# Altium footprint library Capacitor.PcbLib: 107 footprints (part 5 of 7)
Each footprint in its own frame and in the unit in brackets; x right, y up, seen from the top. Pads: shape width x height; smd on the part's side, far side on the other; paste and mask are expansions set on the pad; w line width, h text height; cw(c..) or ccw(c..) is an arc to the next point about the centre after c.
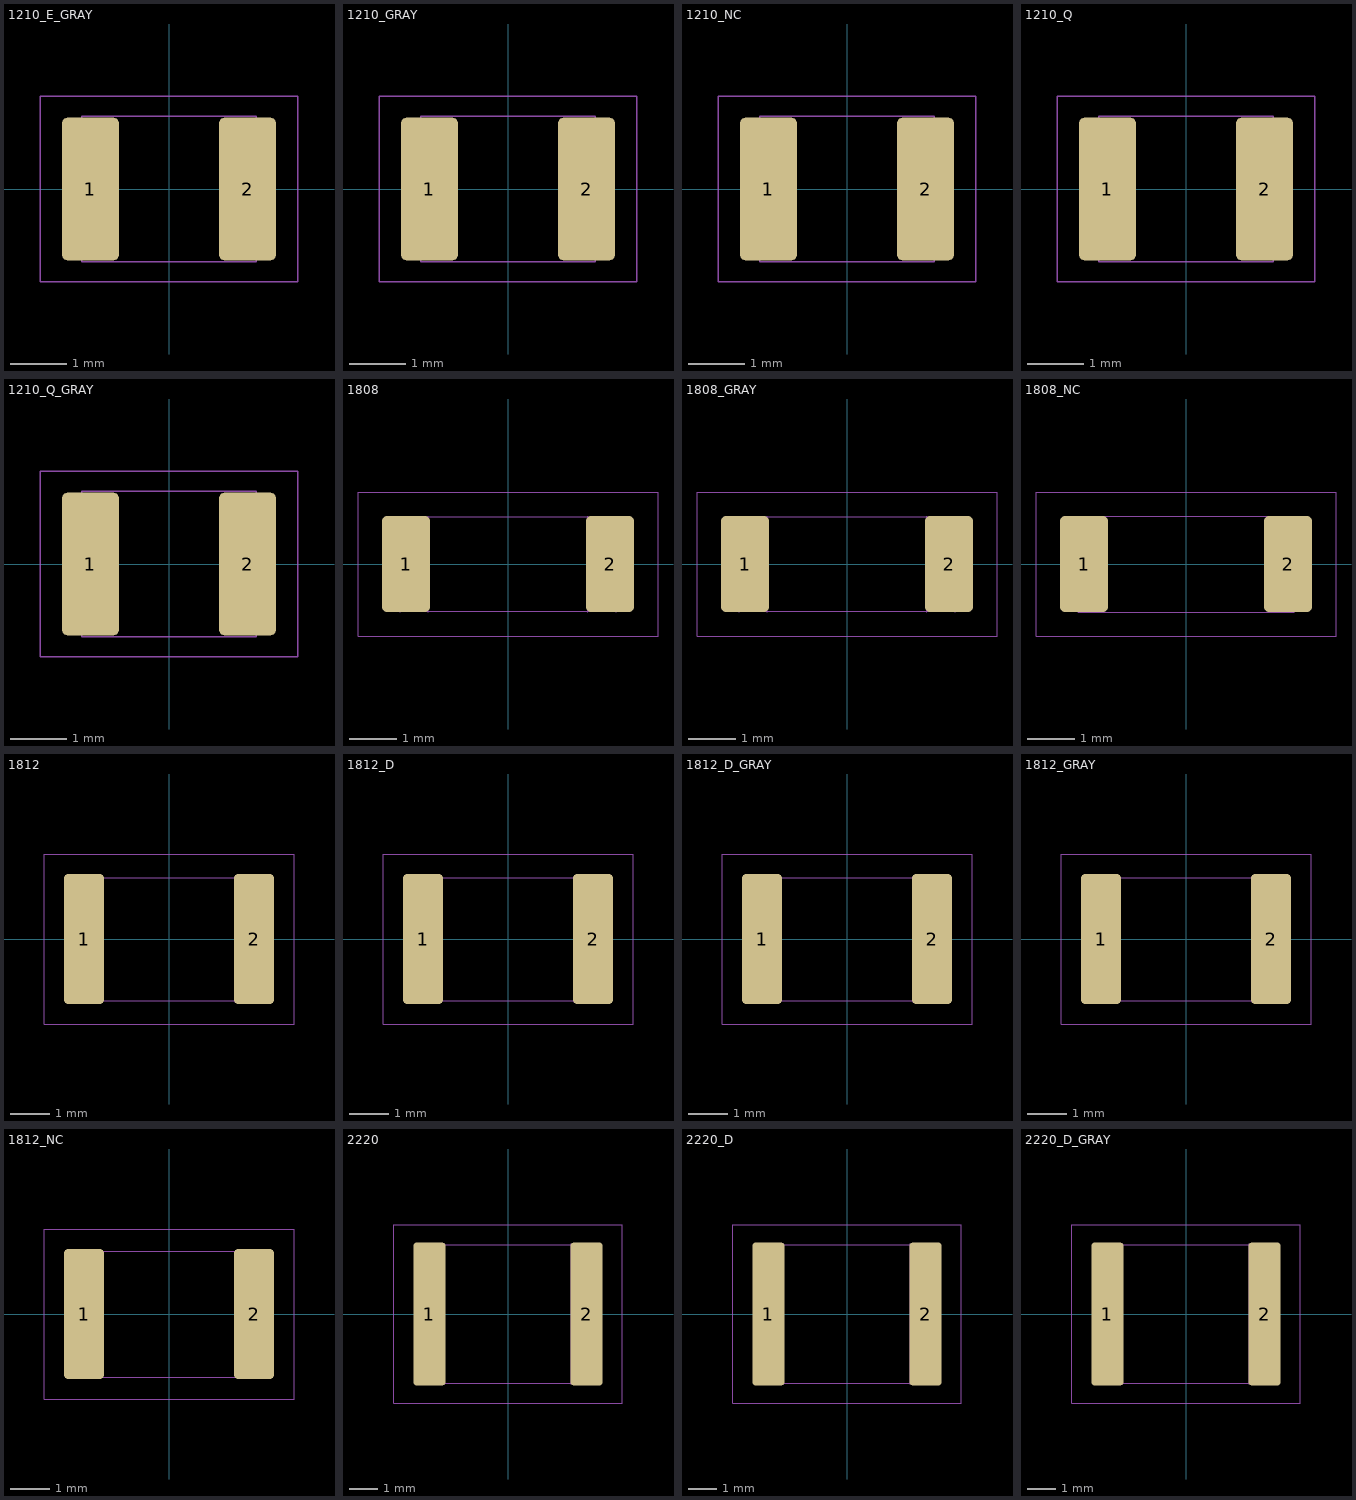
[diagram p4: the footprints below, top view; thin cyan lines are the x and y axes]

## 1210_E_GRAY [mil]
height 98.43
pads (2):
  rrect20% 40x100 smd: 1(-55,0) 2(55,0)
Top Designator:
  text ".Designator" at -127.64,-12.5 h35
Top Courtyard:
  lines w1: -90,-65 -90,65 90,65 90,-65 -90,-65
Top Component Outline:
  lines w1: -61,-51 -61,51 61,51 61,-51 -61,-51
3D body: height 98.43, standoff 0, extent 35,-51 61,51
3D body: height 98, standoff 1, extent -60,-50 60,50
3D body: height 98.43, standoff 0, extent -61,-51 -35,51

## 1210_GRAY [mil]
height 39.37
pads (2):
  rrect20% 40x100 smd: 1(-55,0) 2(55,0)
Top Designator:
  text ".Designator" at -127.64,-12.5 h35
Top Courtyard:
  lines w1: -90,-65 -90,65 90,65 90,-65 -90,-65
Top Component Outline:
  lines w1: -61,-51 -61,51 61,51 61,-51 -61,-51
3D body: height 39.37, standoff 0, extent 35,-51 61,51
3D body: height 38.5, standoff 1, extent -60,-50 60,50
3D body: height 39.37, standoff 0, extent -61,-51 -35,51

## 1210_NC [mil]
height 98.42
pads (2):
  rrect20% 40x100 smd: 1(-55,0) 2(55,0)
Top Designator:
  text ".Designator" at -127.64,-12.5 h35
Top Courtyard:
  lines w1: -90,-65 -90,65 90,65 90,-65 -90,-65
Top Component Outline:
  lines w1: -61,-51 -61,51 61,51 61,-51 -61,-51
3D body: height 1, standoff 0, extent -61,-51 61,51

## 1210_Q [mil]
height 59.06
pads (2):
  rrect20% 40x100 smd: 1(-55,0) 2(55,0)
Top Designator:
  text ".Designator" at -127.64,-12.5 h35
Top Courtyard:
  lines w1: -90,-65 -90,65 90,65 90,-65 -90,-65
Top Component Outline:
  lines w1: -61,-51 -61,51 61,51 61,-51 -61,-51
3D body: height 59.06, standoff 0, extent 35,-51 61,51
3D body: height 58, standoff 1, extent -60,-50 60,50
3D body: height 59.06, standoff 0, extent -61,-51 -35,51

## 1210_Q_GRAY [mil]
height 59.06
pads (2):
  rrect20% 40x100 smd: 1(-55,0) 2(55,0)
Top Designator:
  text ".Designator" at -127.64,-12.5 h35
Top Courtyard:
  lines w1: -90,-65 90,-65 90,65 -90,65 -90,-65
Top Component Outline:
  lines w1: -61,-51 61,-51 61,51 -61,51 -61,-51
3D body: height 59.06, standoff 0, extent -61,-51 -35,51
3D body: height 58, standoff 1, extent -60,-50 60,50
3D body: height 59.06, standoff 0, extent 35,-51 61,51

## 1808 [mil]
height 40
pads (2):
  rrect20% 40x80 smd: 1(-85,0) 2(85,0)
Top Designator:
  text ".Designator" at -127.64,-12.5 h35
Top Courtyard:
  lines w1: -125,-60 -125,60 125,60 125,-60 -125,-60
Top Component Outline:
  lines w1: -90,-40 -90,40 ; -88.58,-39.37 88.58,-39.37 ; -88.58,39.37 88.58,39.37 ; -66.38,-40 -66.38,40 ; 66.38,-40 66.38,40 ; 90,-40 90,40
3D body: height 40, standoff 1, extent -88.58,-39.37 88.58,39.37
3D body: height 41, standoff 0, extent 66.38,-40 90,40
3D body: height 41, standoff 0, extent -90,-40 -66.38,40

## 1808_GRAY [mil]
height 40
pads (2):
  rrect20% 40x80 smd: 1(-85,0) 2(85,0)
Top Designator:
  text ".Designator" at -127.64,-12.5 h35
Top Courtyard:
  lines w1: -125,-60 -125,60 125,60 125,-60 -125,-60
Top Component Outline:
  lines w1: -90,-40 -90,40 ; -88.58,-39.37 88.58,-39.37 ; -88.58,39.37 88.58,39.37 ; -66.38,-40 -66.38,40 ; 66.38,-40 66.38,40 ; 90,-40 90,40
3D body: height 40, standoff 1, extent -88.58,-39.37 88.58,39.37
3D body: height 41, standoff 0, extent 66.38,-40 90,40
3D body: height 41, standoff 0, extent -90,-40 -66.38,40

## 1808_NC [mil]
height 40
pads (2):
  rrect20% 40x80 smd: 1(-85,0) 2(85,0)
Top Courtyard:
  lines w1: -125,-60 -125,60 125,60 125,-60 -125,-60
Top Component Outline:
  lines w1: -90,-40 90,-40 90,40 -90,40 -90,-40
3D body: height 1, standoff 0, extent -90,-40 90,40

## 1812 [mil]
height 59.06
pads (2):
  rrect20% 40x130 smd: 1(-85,0) 2(85,0)
Top Designator:
  text ".Designator" at -127.64,-12.5 h35
Top Courtyard:
  lines w1: -125,-85 125,-85 125,85 -125,85 -125,-85
Top Component Outline:
  lines w1: -90,-63 -90,63 ; -88.58,-61.5 88.58,-61.5 ; -88.58,61.5 88.58,61.5 ; -66.38,-63 -66.38,63 ; 66.38,-63 66.38,63 ; 90,-63 90,63
3D body: height 59.06, standoff 1, extent -88.58,-61.5 88.58,61.5
3D body: height 60, standoff 0, extent 66.38,-63 90,63
3D body: height 60, standoff 0, extent -90,-63 -66.38,63

## 1812_D [mil]
height 78.74
pads (2):
  rrect20% 40x130 smd: 1(-85,0) 2(85,0)
Top Designator:
  text ".Designator" at -127.64,-12.5 h35
Top Courtyard:
  lines w1: -125,-85 -125,85 125,85 125,-85 -125,-85
Top Component Outline:
  lines w1: -90,-63 -90,63 ; -88.58,-61.5 88.58,-61.5 ; -88.58,61.5 88.58,61.5 ; -66.38,-63 -66.38,63 ; 66.38,-63 66.38,63 ; 90,-63 90,63
3D body: height 80, standoff 0, extent -90,-63 -66.38,63
3D body: height 80, standoff 0, extent 66.38,-63 90,63
3D body: height 78.74, standoff 1, extent -88.58,-61.5 88.58,61.5

## 1812_D_GRAY [mil]
height 78.74
pads (2):
  rrect20% 40x130 smd: 1(-85,0) 2(85,0)
Top Designator:
  text ".Designator" at -127.64,-12.5 h35
Top Courtyard:
  lines w1: -125,-85 125,-85 125,85 -125,85 -125,-85
Top Component Outline:
  lines w1: -90,-63 -90,63 ; -88.58,-61.5 88.58,-61.5 ; -88.58,61.5 88.58,61.5 ; -66.38,-63 -66.38,63 ; 66.38,-63 66.38,63 ; 90,-63 90,63
3D body: height 78.74, standoff 1, extent -88.58,-61.5 88.58,61.5
3D body: height 80, standoff 0, extent 66.38,-63 90,63
3D body: height 80, standoff 0, extent -90,-63 -66.38,63

## 1812_GRAY [mil]
height 59.06
pads (2):
  rrect20% 40x130 smd: 1(-85,0) 2(85,0)
Top Designator:
  text ".Designator" at -127.64,-12.5 h35
Top Courtyard:
  lines w1: -125,-85 125,-85 125,85 -125,85 -125,-85
Top Component Outline:
  lines w1: -90,-63 -90,63 ; -88.58,-61.5 88.58,-61.5 ; -88.58,61.5 88.58,61.5 ; -66.38,-63 -66.38,63 ; 66.38,-63 66.38,63 ; 90,-63 90,63
3D body: height 59.06, standoff 1, extent -88.58,-61.5 88.58,61.5
3D body: height 60, standoff 0, extent 66.38,-63 90,63
3D body: height 60, standoff 0, extent -90,-63 -66.38,63

## 1812_NC [mil]
height 78.74
pads (2):
  rrect20% 40x130 smd: 1(-85,0) 2(85,0)
Top Designator:
  text ".Designator" at -127.64,-12.5 h35
Top Courtyard:
  lines w1: -125,-85 -125,85 125,85 125,-85 -125,-85
Top Component Outline:
  lines w1: -90,-63 90,-63 90,63 -90,63 -90,-63
3D body: height 1, standoff 0, extent -90,-63 90,63

## 2220 [mil]
height 59.06
pads (2):
  rrect20% 45x200 smd: 1(-110,0) 2(110,0)
Top Designator:
  text ".Designator" at -127.64,-12.5 h35
Top Courtyard:
  lines w1: -160,-125 160,-125 160,125 -160,125 -160,-125
Top Component Outline:
  lines w1: -112.2,-98.43 -112.2,98.43 ; -111.01,-97 110.99,-97 ; -111,97 111,97 ; -88.58,-98.43 -88.58,98.43 ; 88.58,-98.43 88.58,98.43 ; 112.2,-98.43 112.2,98.43
3D body: height 60, standoff 0, extent -112.2,-98.43 -88.58,98.43
3D body: height 59.06, standoff 1, extent -111,-97 111,97
3D body: height 60, standoff 0, extent 88.58,-98.43 112.2,98.43

## 2220_D [mil]
height 78.74
pads (2):
  rrect20% 45x200 smd: 1(-110,0) 2(110,0)
Top Designator:
  text ".Designator" at -127.64,-12.5 h35
Top Courtyard:
  lines w1: -160,-125 160,-125 160,125 -160,125 -160,-125
Top Component Outline:
  lines w1: -112.2,-98.43 -112.2,98.43 ; -111.01,-97 110.99,-97 ; -111,97 111,97 ; -88.58,-98.43 -88.58,98.43 ; 88.58,-98.43 88.58,98.43 ; 112.2,-98.43 112.2,98.43
3D body: height 80, standoff 0, extent -112.2,-98.43 -88.58,98.43
3D body: height 78.74, standoff 1, extent -111,-97 111,97
3D body: height 80, standoff 0, extent 88.58,-98.43 112.2,98.43

## 2220_D_GRAY [mil]
height 78.74
pads (2):
  rrect20% 45x200 smd: 1(-110,0) 2(110,0)
Top Designator:
  text ".Designator" at -127.64,-12.5 h35
Top Courtyard:
  lines w1: -160,-125 160,-125 160,125 -160,125 -160,-125
Top Component Outline:
  lines w1: -112.2,-98.43 -112.2,98.43 ; -111.01,-97 110.99,-97 ; -111,97 111,97 ; -88.58,-98.43 -88.58,98.43 ; 88.58,-98.43 88.58,98.43 ; 112.2,-98.43 112.2,98.43
3D body: height 80, standoff 0, extent -112.2,-98.43 -88.58,98.43
3D body: height 78.74, standoff 1, extent -111,-97 111,97
3D body: height 80, standoff 0, extent 88.58,-98.43 112.2,98.43